# Altium footprint library Passive.PcbLib: 8 footprints
Each footprint in its own frame and in the unit in brackets; x right, y up, seen from the top. Pads: shape width x height; smd on the part's side, far side on the other; paste and mask are expansions set on the pad; w line width, h text height; cw(c..) or ccw(c..) is an arc to the next point about the centre after c.
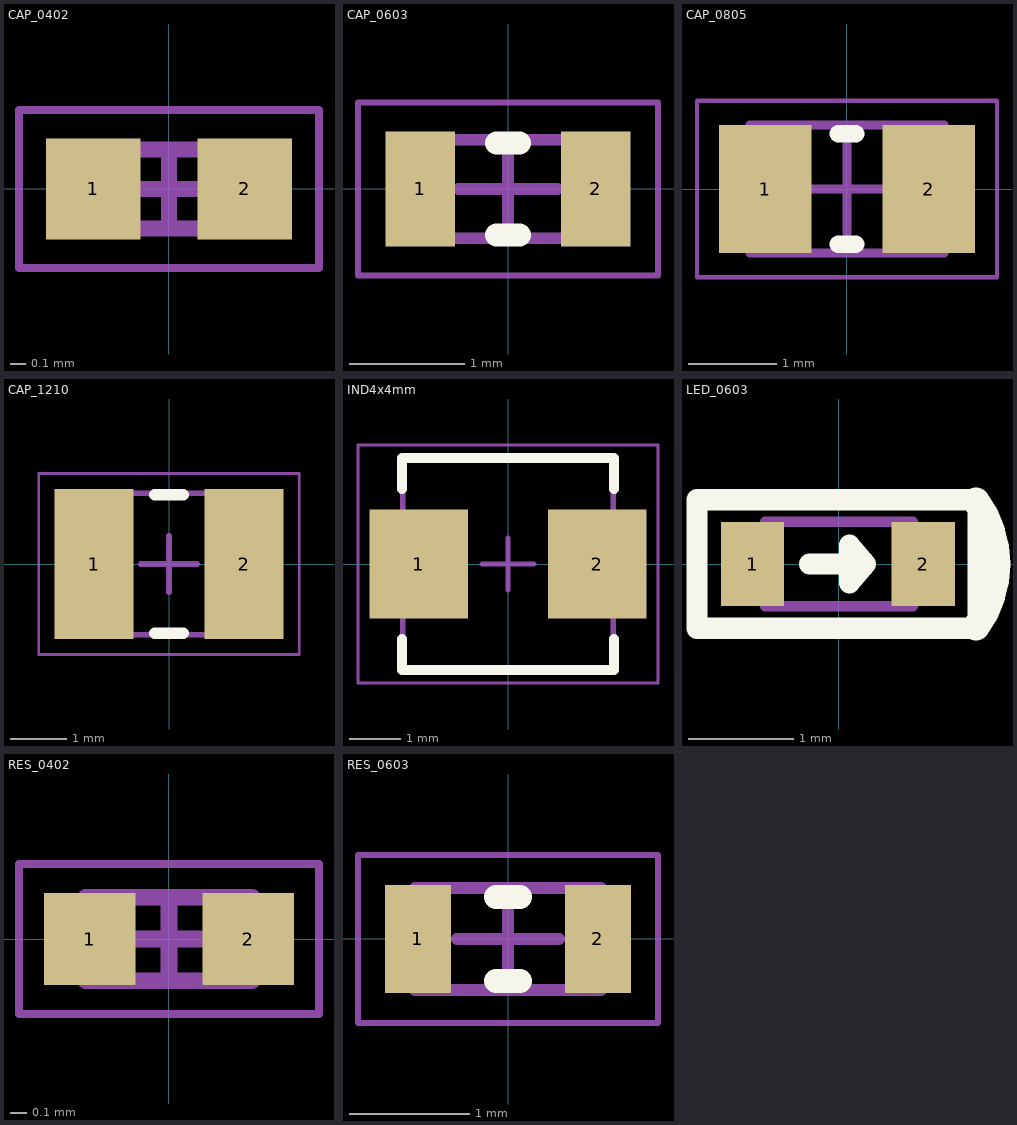
[diagram p0: the footprints below, top view; thin cyan lines are the x and y axes]

## CAP_0402 [mm] "Chip Capacitor, 2-Leads, Body 1,00x0,50mm, IPC Medium Density"
height 0.35
pads (2):
  rect 0.6x0.64 smd: 1(-0.48,0) 2(0.48,0)
Mechanical 13:
  lines w0.1: -0.5,-0.25 -0.5,0.25 0.5,0.25 0.5,-0.25 -0.5,-0.25
Mechanical 15:
  lines w0.05: -0.95,-0.5 -0.95,0.5 0.95,0.5 0.95,-0.5 -0.95,-0.5
  lines w0.1: -0.25,0 0.25,0 ; 0,-0.25 0,0.25
3D body: height 0.35, standoff 0, extent -0.3,-0.25 0.3,0.25
3D body: height 0.35, standoff 0, extent -0.5,-0.25 -0.3,0.25
3D body: height 0.35, standoff 0, extent 0.3,-0.25 0.5,0.25

## CAP_0603 [mm] "Chip Capacitor, 2-Leads, Body 1,55x0,85mm, IPC Medium Density"
height 0.45
pads (2):
  rect 0.6x1 smd: 1(-0.76,0) 2(0.76,0)
Top Overlay:
  lines w0.2: -0.1,-0.4 0.1,-0.4 ; -0.1,0.4 0.1,0.4
Mechanical 13:
  lines w0.1: -0.775,-0.425 -0.775,0.425 0.775,0.425 0.775,-0.425 -0.775,-0.425
Mechanical 15:
  lines w0.05: -1.3,-0.75 -1.3,0.75 1.3,0.75 1.3,-0.75 -1.3,-0.75
  lines w0.1: -0.425,0 0.425,0 ; 0,-0.425 0,0.425
3D body: height 0.45, standoff 0, extent -0.575,-0.425 0.575,0.425
3D body: height 0.45, standoff 0, extent -0.775,-0.425 -0.575,0.425
3D body: height 0.45, standoff 0, extent 0.575,-0.425 0.775,0.425

## CAP_0805 [mm] "Chip Capacitor, 2-Leads, Body 2.00x1.25mm, IPC Medium Density"
height 1.45
pads (2):
  rect 1.05x1.45 smd: 1(-0.925,0) 2(0.925,0)
Top Overlay:
  lines w0.2: -0.1,-0.625 0.1,-0.625 ; -0.1,0.625 0.1,0.625
Mechanical 13:
  lines w0.1: -1.1,-0.725 1.1,-0.725 1.1,0.725 -1.1,0.725 -1.1,-0.725
Mechanical 15:
  lines w0.05: -1.7,-1 1.7,-1 1.7,1 -1.7,1 -1.7,-1
  lines w0.1: -0.5,0 0.5,0 ; 0,-0.5 0,0.5
3D body "CAP_0805.step": height 1.45, standoff 0, extent -1.1,-0.725 1.1,0.725

## CAP_1210 [mm]
height 0.55
pads (2):
  rect 1.4x2.65 smd: 1(-1.325,0) 2(1.325,0)
Top Overlay:
  lines w0.2: -0.25,-1.225 0.25,-1.225 ; -0.25,1.225 0.25,1.225
Mechanical 13:
  lines w0.1: -1.6,-1.25 -1.6,1.25 1.6,1.25 1.6,-1.25 -1.6,-1.25
Mechanical 15:
  lines w0.05: -2.3,-1.6 -2.3,1.6 2.3,1.6 2.3,-1.6 -2.3,-1.6
  lines w0.1: -0.5,0 0.5,0 ; 0,-0.5 0,0.5
3D body "CAP_1210.step": height 0.55, standoff 0, extent -1.6,-1.25 1.6,1.25

## IND4x4mm [mm] "Inductor, 2-Leads, Body 4.06x4.06mm, IPC Medium Density 2.2uH"
height 2
pads (2):
  rect 1.9x2.1 smd: 1(-1.725,0) 2(1.725,0)
Top Overlay:
  lines w0.2: -2.05,-1.45 -2.05,-2.05 2.05,-2.05 2.05,-1.45 ; -2.05,1.45 -2.05,2.05 2.05,2.05 2.05,1.45
Mechanical 13:
  lines w0.1: -2.035,-2.035 -2.035,2.035 2.035,2.035 2.035,-2.035 -2.035,-2.035
Mechanical 15:
  lines w0.05: -2.9,-2.3 -2.9,2.3 2.9,2.3 2.9,-2.3 -2.9,-2.3
  lines w0.1: -0.5,0 0.5,0 ; 0,-0.5 0,0.5
3D body "IND4x4mm.step": height 2.1, standoff 0, extent -2.13,-2.03 2.13,2.03

## LED_0603 [mm]
pads (2):
  rect 0.6x0.8 smd: 1(-0.819,0) 2(0.8,0)
Top Overlay:
  lines w0.2: -0.279,0 0.254,0 ; 0.254,0 0.102,-0.178 0.102,0.178 0.254,0 ; -1.346,-0.61 -1.346,0.61 1.321,0.61 1.321,-0.61 -1.346,-0.61
  lines w0.254: 1.3,-0.6 ccw(c0.5,0) 1.3,0.6
Mechanical 13:
  lines w0.1: -0.7,-0.4 -0.7,0.4 0.7,0.4 0.7,-0.4 -0.7,-0.4
3D body "User Library-LED SMD0603.STEP": height 0.68, standoff 0, extent -0.825,-0.35 0.825,0.375

## RES_0402 [mm] "Chip Resistor, 2-Leads, Body 1,00x0,50mm, IPC Medium Density"
height 0.35
pads (2):
  rect 0.55x0.55 smd: 1(-0.475,0) 2(0.475,0)
Mechanical 13:
  lines w0.1: -0.5,-0.25 0.5,-0.25 0.5,0.25 -0.5,0.25 -0.5,-0.25
Mechanical 15:
  lines w0.05: -0.9,-0.45 0.9,-0.45 0.9,0.45 -0.9,0.45 -0.9,-0.45
  lines w0.1: -0.25,0 0.25,0 ; 0,-0.25 0,0.25
3D body "RESC1005X04N.step": height 0.35, standoff 0, extent -0.5,-0.25 0.5,0.25

## RES_0603 [mm] "Chip Resistor, 2-Leads, Body 1,55x0,85mm, IPC Medium Density"
height 0.45
pads (2):
  rect 0.55x0.9 smd: 1(-0.75,0) 2(0.75,0)
Top Overlay:
  lines w0.2: -0.1,-0.35 0.1,-0.35 ; -0.1,0.35 0.1,0.35
Mechanical 13:
  lines w0.1: -0.775,-0.425 0.775,-0.425 0.775,0.425 -0.775,0.425 -0.775,-0.425
Mechanical 15:
  lines w0.05: -1.25,-0.7 1.25,-0.7 1.25,0.7 -1.25,0.7 -1.25,-0.7
  lines w0.1: -0.425,0 0.425,0 ; 0,-0.425 0,0.425
3D body: height 0.45, standoff 0, extent 0.575,-0.425 0.775,0.425
3D body: height 0.45, standoff 0, extent -0.775,-0.425 -0.575,0.425
3D body: height 0.45, standoff 0, extent -0.575,-0.425 0.575,0.425